# EAGLE library part MC_ARDUINO_DUE (library lieBtrau)
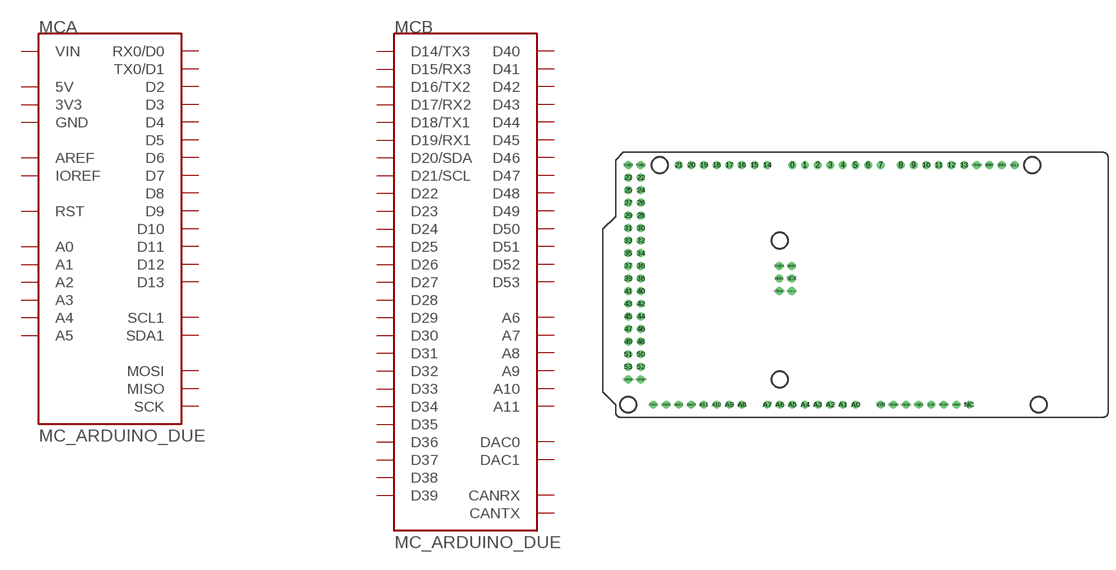
[diagram p9: symbol with the pads of MC_ARDUINO_DUE; footprint MC_ARDUINO_DUE]

Designator prefix MC; gates A=MC_ARDUINO_UNO B=MC_ARDUINO_DUE_EXT

## MC_ARDUINO_DUE (VALUE: ARDUINO DUE)  [MC_ARDUINO_DUE]
0  A:RX0/D0
1  A:TX0/D1
2  A:D2
3  A:D3
3.3V  A:3V3
4  A:D4
5  A:D5
5V@1  A:5V
5V@2  A:5V
5V@3  A:5V
5V@4  A:5V
6  A:D6
7  A:D7
8  A:D8
9  A:D9
10  A:D10
11  A:D11
12  A:D12
13  A:D13
14  B:D14/TX3
15  B:D15/RX3
16  B:D16/TX2
17  B:D17/RX2
18  B:D18/TX1
19  B:D19/RX1
20  B:D20/SDA
21  B:D21/SCL
22  B:D22
23  B:D23
24  B:D24
25  B:D25
26  B:D26
27  B:D27
28  B:D28
29  B:D29
30  B:D30
31  B:D31
32  B:D32
33  B:D33
34  B:D34
35  B:D35
36  B:D36
37  B:D37
38  B:D38
39  B:D39
40  B:D40
41  B:D41
42  B:D42
43  B:D43
44  B:D44
45  B:D45
46  B:D46
47  B:D47
48  B:D48
49  B:D49
50  B:D50
51  B:D51
52  B:D52
53  B:D53
A0  A:A0
A1  A:A1
A2  A:A2
A3  A:A3
A4  A:A4
A5  A:A5
A6  B:A6
A7  B:A7
A8  B:A8
A9  B:A9
A10  B:A10
A11  B:A11
AREF  A:AREF
CANRX  B:CANRX
CANTX  B:CANTX
DAC0  B:DAC0
DAC1  B:DAC1
GND@1  A:GND
GND@2  A:GND
GND@3  A:GND
GND@4  A:GND
GND@5  A:GND
GND@6  A:GND
IOREF  A:IOREF
MISO  A:MISO
MOSI  A:MOSI
RESET  A:RST
RESET@2  A:RST
SCK  A:SCK
SCL1  A:SCL1
SDA1  A:SDA1
VIN  A:VIN

## Footprint MC_ARDUINO_DUE (pad centres in mm)
drill 0.9 pad 1.6: 0 -63.5,50.8; 1 -60.96,50.8; 2 -58.42,50.8; 3 -55.88,50.8; 3.3V -35.56,2.54; 4 -53.34,50.8; 5 -50.8,50.8; 5V@1 -38.1,2.54; 5V@2 -93.98,50.8; 5V@3 -96.52,50.8; 5V@4 -66.167,30.48; 6 -48.26,50.8; 7 -45.72,50.8; 8 -41.656,50.8; 9 -39.116,50.8; 10 -36.576,50.8; 11 -34.036,50.8; 12 -31.496,50.8; 13 -28.956,50.8; 14 -68.58,50.8; 15 -71.12,50.8; 16 -73.66,50.8; 17 -76.2,50.8; 18 -78.74,50.8; 19 -81.28,50.8; 20 -83.82,50.8; 21 -86.36,50.8; 22 -93.98,48.26; 23 -96.52,48.26; 24 -93.98,45.72; 25 -96.52,45.72; 26 -93.98,43.18; 27 -96.52,43.18; 28 -93.98,40.64; 29 -96.52,40.64; 30 -93.98,38.1; 31 -96.52,38.1; 32 -93.98,35.56; 33 -96.52,35.56; 34 -93.98,33.02; 35 -96.52,33.02; 36 -93.98,30.48; 37 -96.52,30.48; 38 -93.98,27.94; 39 -96.52,27.94; 40 -93.98,25.4; 41 -96.52,25.4; 42 -93.98,22.86; 43 -96.52,22.86; 44 -93.98,20.32; 45 -96.52,20.32; 46 -93.98,17.78; 47 -96.52,17.78; 48 -93.98,15.24; 49 -96.52,15.24; 50 -93.98,12.7; 51 -96.52,12.7; 52 -93.98,10.16; 53 -96.52,10.16; A0 -50.8,2.54; A1 -53.34,2.54; A2 -55.88,2.54; A3 -58.42,2.54; A4 -60.96,2.54; A5 -63.5,2.54; A6 -66.04,2.54; A7 -68.58,2.54; A8 -73.66,2.54; A9 -76.2,2.54; A10 -78.74,2.54; A11 -81.28,2.54; AREF -23.876,50.8; CANRX -88.9,2.54; CANTX -91.44,2.54; DAC0 -83.82,2.54; DAC1 -86.36,2.54; GND@1 -40.64,2.54; GND@2 -43.18,2.54; GND@3 -96.52,7.62; GND@4 -93.98,7.62; GND@5 -66.167,25.4; GND@6 -26.416,50.8; IOREF -30.48,2.54; MISO -63.627,30.48; MOSI -66.167,27.94; NC -27.94,2.54; RESET -33.02,2.54; RESET@2 -63.627,25.4; SCK -63.627,27.94; SCL1 -18.796,50.8; SDA1 -21.336,50.8; VIN -45.72,2.54
hole 3.2 at -15.24,50.8
hole 3.2 at -90.17,50.8
hole 3.2 at -96.52,2.54
hole 3.2 at -66.04,35.56
hole 3.2 at -13.97,2.54
hole 3.2 at -66.04,7.62